# Altium schematic symbol library Switchers.SchLib: 1 symbol
Pins are listed as number, name and electrical type; pins without a type are passive.

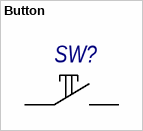
[diagram p0: symbol Button]

## Button
designator SW?  (value not drawn)
pins: 1, 2